# EAGLE library part LT3652 (library Eagle_CAD_parts)
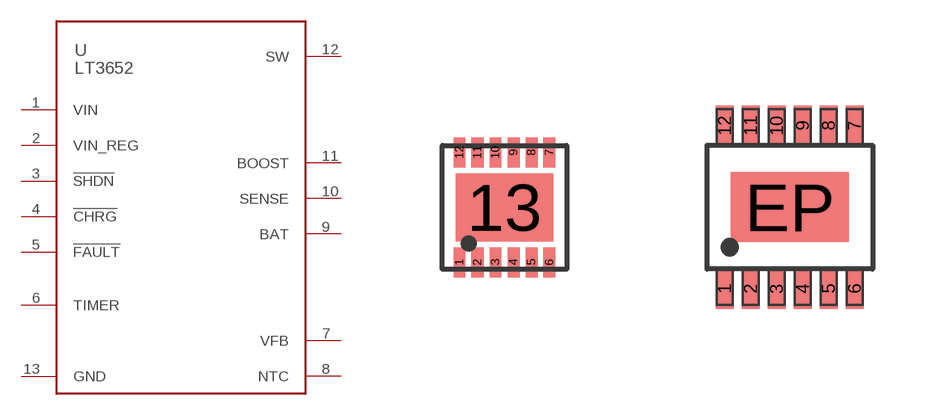
[diagram p84: symbol with the pads of 12-DFN-3X3; footprints 12-DFN-3X3, 12-MSOP_EP]

Designator prefix U

## LT3652EDD#TRPBF (DIGIKEY_PART_NUMBER: LT3652EDD#TRPBFCT-ND; MANUFACTURER_PART_NUMBER: LT3652EDD#TRPBF)  [12-DFN-3X3]
1  VIN
2  VIN_REG
3  !SHDN
4  !CHRG
5  !FAULT
6  TIMER
7  VFB
8  NTC
9  BAT
10  SENSE
11  BOOST
12  SW
13  GND

## LT3652HVEMSE#TRPBF (DIGIKEY_PART_NUMBER: LT3652HVEMSE#TRPBFCT-ND; MANUFACTURER_PART_NUMBER: LT3652HVEMSE#TRPBF)  [12-MSOP_EP]
1  VIN
2  VIN_REG
3  !SHDN
4  !CHRG
5  !FAULT
6  TIMER
7  VFB
8  NTC
9  BAT
10  SENSE
11  BOOST
12  SW
EP  GND

## Footprint 12-DFN-3X3 (pad centres in mm)
smd 0.3 x 0.75: 1 -1.125,-1.375; 2 -0.675,-1.375; 3 -0.225,-1.375; 4 0.225,-1.375; 5 0.675,-1.375; 6 1.125,-1.375; 7 1.125,1.375; 8 0.675,1.375; 9 0.225,1.375; 10 -0.225,1.375; 11 -0.675,1.375; 12 -1.125,1.375
smd 2.43 x 1.7: 13 0,0

## Footprint 12-MSOP_EP (pad centres in mm)
smd 0.458 x 1.016: 1 -1.625,-2.04; 2 -0.975,-2.04; 3 -0.325,-2.04; 4 0.325,-2.04; 5 0.975,-2.04; 6 1.625,-2.04; 7 1.625,2.04; 8 0.975,2.04; 9 0.325,2.04; 10 -0.325,2.04; 11 -0.975,2.04; 12 -1.625,2.04
smd 2.947 x 1.753: EP 0,0